# EAGLE library part FDMS039N08B (library FDMS039N08B)
100% UIL Tested; Low Reverse Recovery Charge, Qrr = 80nC; RDS(on) = 3.2 m (Typ.)@ VGS = 10 V, ID = 50 A; RoHS Compliant; Low FOM RDS(on) *QG; Fast Switching Speed; Enables highly efficiency in synchronous rectification; Soft reverse recovery Body Diode Source: Datasheet <https://www.onsemi.com/pub/Collateral/FDMS039N08B-D.PDF>
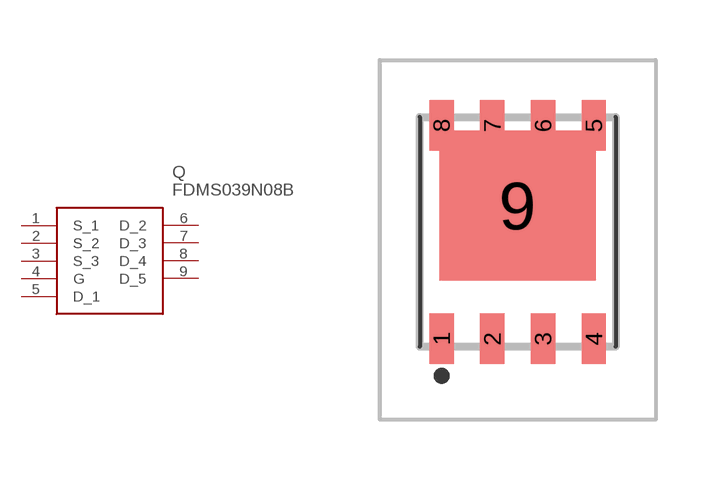
[diagram p0: symbol with the pads of FDMS6681Z; footprint FDMS6681Z]

Designator prefix Q

## FDMS039N08B (Arrow_Part_Number: FDMS039N08B; Arrow_Price-Stock: https://www.arrow.com/en/products/fdms039n08b/on-semiconductor?region=nac; Description: 100% UIL Tested; Low Reverse Recovery Charge, Qrr = 80nC; RDS(on) = 3.2 m (Typ.)@ VGS = 10 V, ID = 50 A; RoHS Compliant; Low FOM RDS(on) *QG; Fast Switching Speed; Enables highly efficiency in synchronous rectification; Soft reverse recovery Body Diode; Height: 1.1mm; Manufacturer_Name: onsemi; Manufacturer_Part_Number: FDMS039N08B; Mouser_Part_Number: 512-FDMS039N08B; Mouser_Price-Stock: https://www.mouser.co.uk/ProductDetail/onsemi-Fairchild/FDMS039N08B?qs=EN3VjTIJKYFlfg%252B94RGiRQ%3D%3D)  [FDMS6681Z]
1  S_1
2  S_2
3  S_3
4  G
5  D_1
6  D_2
7  D_3
8  D_4
9  D_5

## Footprint FDMS6681Z (pad centres in mm)
PQFN8 5X6, 1.27P CASE 483AE ISSUE A_1
smd 0.61 x 1.27: 1 -1.905,-2.472; 2 -0.635,-2.472; 3 0.635,-2.472; 4 1.905,-2.472; 5 1.905,2.868; 6 0.635,2.868; 7 -0.635,2.868; 8 -1.905,2.868
smd 3.91 x 3.75: 9 0,0.858